# EAGLE library part SIM800C (library Deegou-Interface-ICs)
GSM/GPRS BLUETOOTH SMT 42P
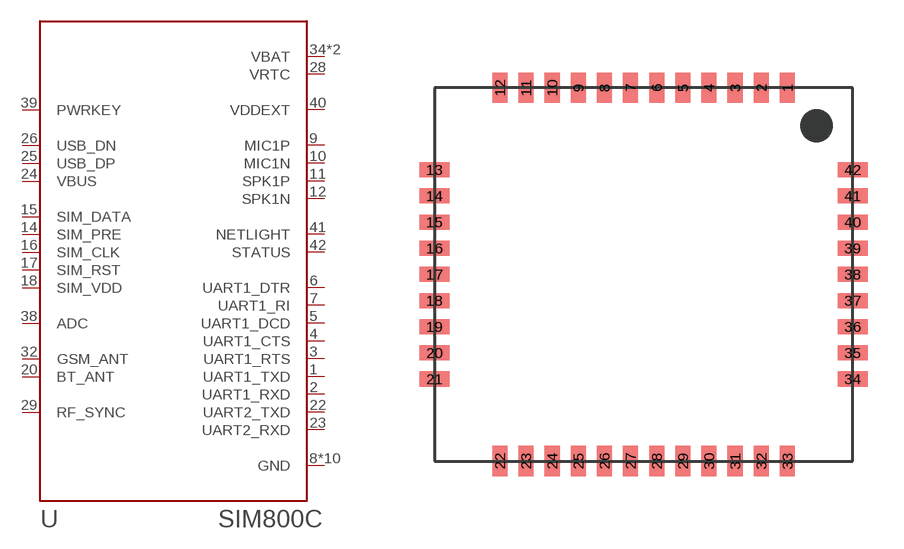
[diagram p0: symbol with the pads of 42P-17.6X15.7X2.3; footprint 42P-17.6X15.7X2.3]

Designator prefix U

## SIM800C (MFR: SIMCom; MPN: SIM800C; VALUE: SIM800C)  [42P-17.6X15.7X2.3]
1  UART1_TXD
2  UART1_RXD
3  UART1_RTS
4  UART1_CTS
5  UART1_DCD
6  UART1_DTR
7  UART1_RI
8  GND
9  MIC1P
10  MIC1N
11  SPK1P
12  SPK1N
13  GND
14  SIM_PRE
15  SIM_DATA
16  SIM_CLK
17  SIM_RST
18  SIM_VDD
19  GND
20  BT_ANT
21  GND
22  UART2_TXD
23  UART2_RXD
24  VBUS
25  USB_DP
26  USB_DN
27  GND
28  VRTC
29  RF_SYNC
30  GND
31  GND
32  GSM_ANT
33  GND
34  VBAT
35  VBAT
36  GND
37  GND
38  ADC
39  PWRKEY
40  VDDEXT
41  NETLIGHT
42  STATUS

## Footprint 42P-17.6X15.7X2.3 (pad centres in mm)
smd 0.635 x 1.27: 1 14.86,15.72; 2 13.76,15.72; 3 12.66,15.72; 4 11.56,15.72; 5 10.46,15.72; 6 9.36,15.72; 7 8.26,15.72; 8 7.16,15.72; 9 6.06,15.72; 10 4.96,15.72; 11 3.86,15.72; 12 2.76,15.72; 22 2.76,0.02; 23 3.86,0.02; 24 4.96,0.02; 25 6.06,0.02; 26 7.16,0.02; 27 8.26,0.02; 28 9.36,0.02; 29 10.46,0.02; 30 11.56,0.02; 31 12.66,0.02; 32 13.76,0.02; 33 14.86,0.02
smd 1.27 x 0.635: 13 0.01,12.27; 14 0.01,11.17; 15 0.01,10.07; 16 0.01,8.97; 17 0.01,7.87; 18 0.01,6.77; 19 0.01,5.67; 20 0.01,4.57; 21 0.01,3.47; 34 17.61,3.47; 35 17.61,4.57; 36 17.61,5.67; 37 17.61,6.77; 38 17.61,7.87; 39 17.61,8.97; 40 17.61,10.07; 41 17.61,11.17; 42 17.61,12.27